# Altium footprint library Symbol.PcbLib: 206 footprints (part 11 of 15)
Each footprint in its own frame and in the unit in brackets; x right, y up, seen from the top. Pads: shape width x height; smd on the part's side, far side on the other; paste and mask are expansions set on the pad; w line width, h text height; cw(c..) or ccw(c..) is an arc to the next point about the centre after c.
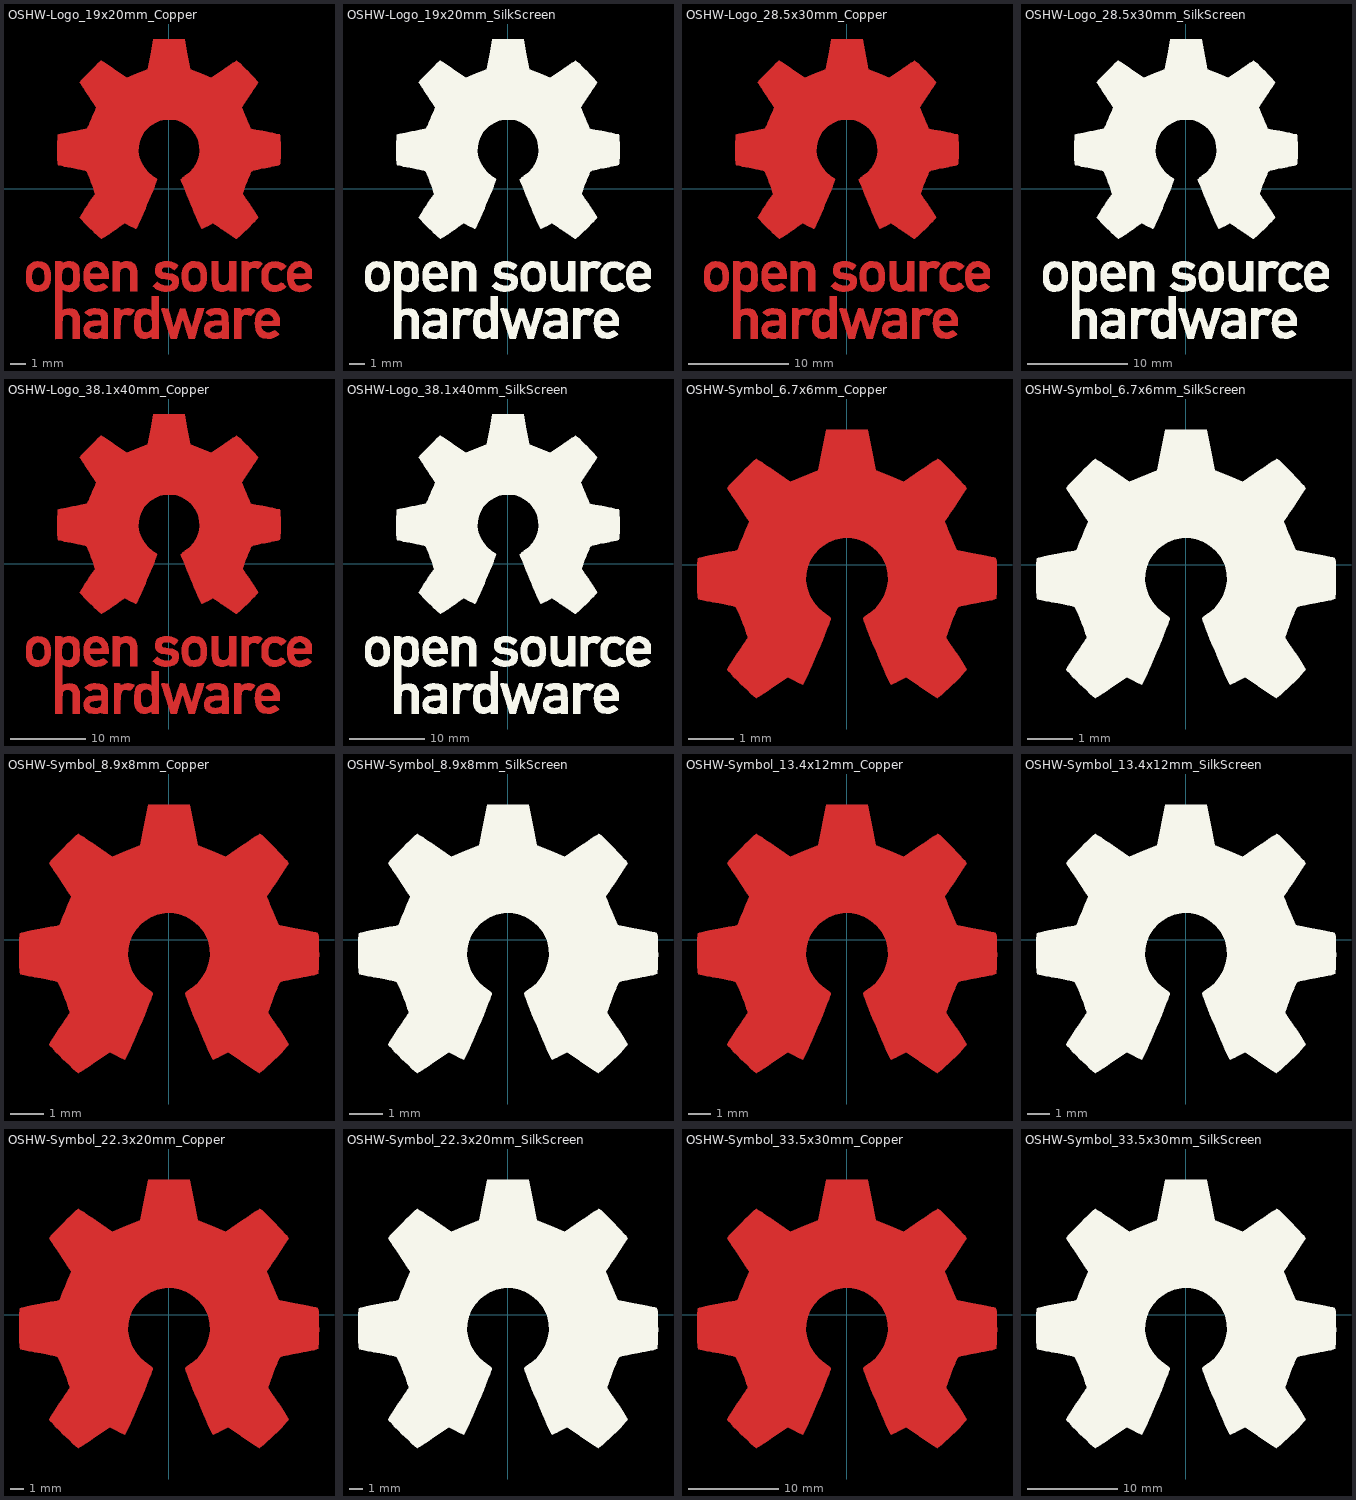
[diagram p10: the footprints below, top view; thin cyan lines are the x and y axes]

## OSHW-Logo_19x20mm_Copper [mm]
F.Cu:
  region: 5.959,-4.828 6.102,-4.872 6.194,-4.927 6.224,-4.971 6.216,-5.023 6.162,-5.104 6.117,-5.162 6.024,-5.266 5.953,-5.31 5.893,-5.307 5.716,-5.262 5.585,-5.264 5.479,-5.315 5.444,-5.345 5.33,-5.451 5.33,-6.829 4.872,-6.829 4.872,-4.83 5.101,-4.83 5.238,-4.836 5.309,-4.855 5.33,-4.893 5.33,-4.894 5.34,-4.933 5.383,-4.928 5.444,-4.9 5.57,-4.847 5.672,-4.815 5.803,-4.807
  region: 5.415,-7.952 5.575,-7.984 5.666,-8.031 5.762,-8.108 5.626,-8.281 5.542,-8.385 5.485,-8.436 5.428,-8.444 5.345,-8.418 5.306,-8.404 5.147,-8.383 5.001,-8.428 4.895,-8.529 4.877,-8.562 4.858,-8.647 4.844,-8.805 4.834,-9.023 4.83,-9.291 4.83,-9.329 4.83,-9.993 4.372,-9.993 4.372,-7.953 4.601,-7.953 4.733,-7.957 4.802,-7.972 4.827,-8.007 4.83,-8.039 4.83,-8.126 4.94,-8.039 5.066,-7.981 5.235,-7.951
  region: -3.289,-7.958 -3.227,-7.976 -3.207,-8.017 -3.206,-8.036 -3.203,-8.087 -3.178,-8.095 -3.111,-8.06 -3.071,-8.036 -2.945,-7.984 -2.795,-7.959 -2.638,-7.957 -2.49,-7.976 -2.37,-8.013 -2.293,-8.067 -2.278,-8.134 -2.286,-8.152 -2.341,-8.228 -2.427,-8.321 -2.443,-8.336 -2.525,-8.405 -2.595,-8.427 -2.694,-8.411 -2.734,-8.401 -2.857,-8.376 -2.943,-8.387 -3.017,-8.427 -3.084,-8.479 -3.133,-8.546 -3.167,-8.639 -3.189,-8.77 -3.201,-8.954 -3.206,-9.201 -3.206,-9.351 -3.206,-9.993 -3.623,-9.993 -3.623,-7.953 -3.414,-7.953
  region: 4.497,-6.829 4.268,-6.829 4.13,-6.823 4.059,-6.804 4.039,-6.766 4.027,-6.733 3.979,-6.74 3.883,-6.787 3.664,-6.86 3.43,-6.855 3.207,-6.776 3.1,-6.714 3.019,-6.646 2.96,-6.562 2.919,-6.449 2.893,-6.296 2.879,-6.09 2.874,-5.82 2.873,-5.612 2.873,-4.83 3.29,-4.83 3.29,-5.478 3.293,-5.784 3.308,-6.016 3.337,-6.184 3.383,-6.298 3.452,-6.367 3.547,-6.401 3.664,-6.41 3.787,-6.4 3.88,-6.364 3.948,-6.293 3.994,-6.177 4.022,-6.005 4.036,-5.77 4.039,-5.478 4.039,-4.83 4.497,-4.83
  region: -2.497,-4.865 -2.393,-4.914 -2.293,-4.986 -2.216,-5.068 -2.161,-5.173 -2.123,-5.312 -2.099,-5.498 -2.087,-5.742 -2.083,-6.057 -2.083,-6.09 -2.082,-6.829 -2.54,-6.829 -2.54,-6.147 -2.54,-5.895 -2.543,-5.712 -2.549,-5.585 -2.561,-5.499 -2.58,-5.442 -2.609,-5.399 -2.65,-5.356 -2.792,-5.265 -2.947,-5.248 -3.094,-5.306 -3.146,-5.349 -3.183,-5.389 -3.21,-5.433 -3.229,-5.492 -3.24,-5.582 -3.245,-5.716 -3.248,-5.907 -3.248,-6.14 -3.248,-6.829 -3.706,-6.829 -3.706,-4.83 -3.477,-4.83 -3.339,-4.836 -3.268,-4.855 -3.248,-4.893 -3.248,-4.894 -3.238,-4.931 -3.196,-4.926 -3.113,-4.886 -2.923,-4.826 -2.706,-4.82
  region: 7.342,-4.848 7.584,-4.95 7.66,-5 7.757,-5.077 7.818,-5.137 7.828,-5.157 7.798,-5.2 7.722,-5.274 7.661,-5.326 7.493,-5.46 7.361,-5.349 7.258,-5.277 7.159,-5.252 7.044,-5.258 6.863,-5.303 6.738,-5.397 6.663,-5.548 6.628,-5.766 6.631,-6.01 6.677,-6.189 6.77,-6.311 6.833,-6.352 7,-6.403 7.178,-6.403 7.333,-6.354 7.37,-6.329 7.462,-6.267 7.534,-6.257 7.612,-6.303 7.698,-6.386 7.834,-6.527 7.683,-6.651 7.45,-6.791 7.187,-6.861 6.912,-6.856 6.731,-6.81 6.52,-6.696 6.351,-6.518 6.275,-6.392 6.213,-6.211 6.182,-5.982 6.181,-5.734 6.212,-5.495 6.273,-5.296 6.282,-5.275 6.424,-5.074 6.616,-4.928 6.843,-4.84 7.091,-4.812
  region: 2.023,-4.855 2.233,-4.97 2.398,-5.151 2.476,-5.298 2.509,-5.428 2.53,-5.613 2.54,-5.827 2.536,-6.042 2.519,-6.23 2.499,-6.331 2.431,-6.468 2.313,-6.615 2.171,-6.742 2.031,-6.825 2.027,-6.826 1.853,-6.862 1.646,-6.863 1.45,-6.831 1.374,-6.804 1.179,-6.693 1.039,-6.548 0.948,-6.357 0.896,-6.105 0.885,-5.973 0.886,-5.808 0.888,-5.621 0.945,-5.333 1.056,-5.108 1.222,-4.946 1.442,-4.848 1.489,-4.836 1.772,-4.809 hole: 1.728,-5.251 1.573,-5.285 1.454,-5.368 1.392,-5.437 1.355,-5.505 1.338,-5.597 1.333,-5.738 1.332,-5.808 1.347,-6.049 1.391,-6.233 1.46,-6.351 1.509,-6.385 1.634,-6.408 1.783,-6.401 1.912,-6.367 1.946,-6.349 2.035,-6.241 2.094,-6.075 2.119,-5.874 2.107,-5.658 2.08,-5.528 2.001,-5.377 1.877,-5.283
  region: 1.097,-7.974 1.312,-8.619 1.528,-9.265 1.595,-9.036 1.636,-8.894 1.689,-8.703 1.747,-8.493 1.777,-8.38 1.892,-7.953 2.366,-7.953 2.224,-8.401 2.154,-8.621 2.07,-8.886 1.982,-9.163 1.904,-9.41 1.725,-9.973 1.532,-9.985 1.339,-9.998 1.234,-9.652 1.17,-9.437 1.099,-9.201 1.038,-8.992 1.035,-8.983 0.989,-8.842 0.949,-8.745 0.92,-8.708 0.914,-8.713 0.894,-8.769 0.855,-8.891 0.802,-9.061 0.74,-9.266 0.707,-9.379 0.527,-9.993 0.143,-9.993 -0.163,-9.025 -0.249,-8.754 -0.328,-8.507 -0.395,-8.297 -0.447,-8.135 -0.48,-8.033 -0.49,-8.003 -0.482,-7.972 -0.419,-7.959 -0.289,-7.96 -0.268,-7.961 -0.026,-7.974 0.132,-8.557 0.191,-8.769 0.243,-8.956 0.284,-9.101 0.31,-9.188 0.315,-9.202 0.335,-9.186 0.375,-9.102 0.43,-8.961 0.497,-8.775 0.553,-8.607 0.768,-7.949
  region: -8.405,-4.852 -8.188,-4.948 -8.022,-5.109 -7.909,-5.334 -7.848,-5.625 -7.844,-5.67 -7.84,-5.99 -7.885,-6.271 -7.974,-6.498 -8.022,-6.571 -8.19,-6.726 -8.403,-6.826 -8.642,-6.867 -8.885,-6.846 -9.07,-6.781 -9.23,-6.671 -9.36,-6.527 -9.362,-6.524 -9.415,-6.435 -9.449,-6.346 -9.47,-6.233 -9.482,-6.074 -9.487,-5.944 -9.49,-5.826 -9.492,-5.685 -9.484,-5.491 -9.459,-5.345 -9.413,-5.23 -9.345,-5.128 -9.319,-5.098 -9.159,-4.947 -8.988,-4.86 -8.778,-4.823 -8.676,-4.82 hole: -8.733,-5.258 -8.868,-5.308 -8.983,-5.413 -9.051,-5.585 -9.073,-5.826 -9.069,-5.943 -9.054,-6.1 -9.028,-6.201 -8.981,-6.272 -8.937,-6.314 -8.781,-6.401 -8.618,-6.413 -8.466,-6.35 -8.39,-6.28 -8.335,-6.209 -8.303,-6.141 -8.289,-6.052 -8.288,-5.919 -8.293,-5.797 -8.302,-5.623 -8.317,-5.51 -8.343,-5.436 -8.388,-5.379 -8.424,-5.347 -8.573,-5.262
  region: -0.666,-9.993 -0.895,-9.993 -1.028,-9.99 -1.097,-9.973 -1.122,-9.938 -1.124,-9.915 -1.128,-9.867 -1.155,-9.858 -1.225,-9.887 -1.279,-9.915 -1.487,-9.979 -1.713,-9.983 -1.897,-9.935 -2.068,-9.818 -2.198,-9.646 -2.27,-9.443 -2.272,-9.431 -2.282,-9.307 -2.287,-9.129 -2.287,-8.994 -2.287,-8.926 -2.284,-8.817 -2.263,-8.547 -2.221,-8.344 -2.151,-8.194 -2.046,-8.083 -1.945,-8.017 -1.803,-7.971 -1.626,-7.955 -1.445,-7.968 -1.291,-8.008 -1.209,-8.056 -1.124,-8.133 -1.124,-7.162 -0.666,-7.162 hole: -1.534,-8.386 -1.669,-8.427 -1.769,-8.519 -1.779,-8.537 -1.811,-8.65 -1.829,-8.811 -1.832,-8.994 -1.822,-9.173 -1.798,-9.321 -1.765,-9.404 -1.642,-9.518 -1.497,-9.559 -1.346,-9.526 -1.218,-9.427 -1.169,-9.361 -1.141,-9.282 -1.128,-9.167 -1.124,-8.994 -1.13,-8.822 -1.146,-8.672 -1.168,-8.571 -1.171,-8.562 -1.26,-8.454 -1.389,-8.395
  region: 8.868,-4.823 8.974,-4.849 9.179,-4.944 9.354,-5.089 9.475,-5.262 9.491,-5.301 9.514,-5.403 9.53,-5.555 9.535,-5.707 9.535,-5.996 8.932,-5.996 8.683,-5.997 8.507,-6.003 8.396,-6.018 8.338,-6.046 8.326,-6.092 8.348,-6.16 8.387,-6.24 8.498,-6.373 8.651,-6.439 8.838,-6.437 9.05,-6.365 9.234,-6.276 9.386,-6.396 9.538,-6.517 9.395,-6.649 9.204,-6.774 8.969,-6.849 8.716,-6.87 8.471,-6.832 8.432,-6.82 8.217,-6.707 8.057,-6.54 7.949,-6.313 7.889,-6.02 7.889,-6.014 7.883,-5.695 7.905,-5.582 7.937,-5.415 8.043,-5.18 8.195,-4.996 8.387,-4.871 8.614,-4.811 hole: 8.801,-5.228 8.664,-5.231 8.525,-5.292 8.408,-5.394 8.338,-5.517 8.328,-5.582 8.367,-5.599 8.472,-5.613 8.628,-5.62 8.726,-5.621 8.91,-5.621 9.025,-5.616 9.085,-5.604 9.106,-5.581 9.101,-5.542 9.096,-5.528 9.022,-5.389 8.905,-5.277
  region: 0.046,-4.823 0.204,-4.853 0.368,-4.915 0.385,-4.923 0.509,-4.989 0.595,-5.049 0.623,-5.088 0.596,-5.151 0.532,-5.245 0.504,-5.28 0.386,-5.417 0.235,-5.328 0.091,-5.268 -0.076,-5.236 -0.236,-5.234 -0.359,-5.264 -0.389,-5.283 -0.446,-5.368 -0.452,-5.467 -0.41,-5.544 -0.385,-5.559 -0.31,-5.578 -0.178,-5.599 -0.016,-5.62 0.014,-5.623 0.275,-5.669 0.464,-5.745 0.59,-5.86 0.659,-6.021 0.681,-6.218 0.651,-6.441 0.554,-6.617 0.388,-6.745 0.155,-6.825 -0.104,-6.857 -0.315,-6.857 -0.487,-6.828 -0.604,-6.788 -0.752,-6.719 -0.888,-6.638 -0.937,-6.603 -1.062,-6.501 -0.76,-6.196 -0.589,-6.309 -0.417,-6.394 -0.234,-6.439 -0.058,-6.444 0.093,-6.409 0.199,-6.337 0.233,-6.275 0.228,-6.177 0.143,-6.102 -0.022,-6.05 -0.202,-6.026 -0.479,-5.98 -0.685,-5.894 -0.823,-5.764 -0.895,-5.589 -0.905,-5.382 -0.855,-5.165 -0.744,-5.001 -0.568,-4.889 -0.327,-4.829 -0.149,-4.817
  region: 6.731,-7.964 6.93,-8.016 7.097,-8.123 7.177,-8.202 7.31,-8.391 7.385,-8.61 7.411,-8.879 7.412,-8.9 7.412,-9.119 6.154,-9.119 6.18,-9.234 6.229,-9.337 6.314,-9.445 6.331,-9.463 6.484,-9.556 6.657,-9.572 6.857,-9.51 6.891,-9.494 6.995,-9.443 7.065,-9.415 7.077,-9.412 7.12,-9.438 7.2,-9.501 7.241,-9.535 7.327,-9.614 7.355,-9.666 7.335,-9.714 7.325,-9.728 7.255,-9.785 7.139,-9.855 7.058,-9.896 6.829,-9.967 6.575,-9.991 6.334,-9.963 6.267,-9.943 6.058,-9.832 5.904,-9.66 5.802,-9.426 5.753,-9.129 5.748,-8.973 5.763,-8.747 5.771,-8.644 5.842,-8.381 5.962,-8.184 6.134,-8.049 6.358,-7.975 6.479,-7.96 hole: 6.592,-8.361 6.431,-8.392 6.292,-8.481 6.196,-8.609 6.163,-8.747 6.201,-8.764 6.305,-8.777 6.456,-8.785 6.558,-8.786 6.742,-8.785 6.858,-8.779 6.922,-8.765 6.949,-8.74 6.954,-8.703 6.918,-8.591 6.828,-8.48 6.71,-8.395
  region: -4.493,-4.877 -4.451,-4.896 -4.308,-5.001 -4.172,-5.155 -4.07,-5.324 -4.042,-5.402 -4.015,-5.54 -4,-5.708 -3.998,-5.777 -3.997,-5.996 -5.256,-5.996 -5.229,-6.111 -5.163,-6.246 -5.048,-6.363 -4.911,-6.438 -4.824,-6.454 -4.705,-6.435 -4.564,-6.387 -4.516,-6.366 -4.339,-6.277 -4.187,-6.392 -4.1,-6.47 -4.054,-6.535 -4.051,-6.554 -4.093,-6.6 -4.184,-6.669 -4.266,-6.724 -4.489,-6.821 -4.739,-6.866 -4.987,-6.854 -5.184,-6.794 -5.388,-6.665 -5.532,-6.496 -5.623,-6.276 -5.664,-5.998 -5.667,-5.871 -5.653,-5.579 -5.651,-5.571 -5.604,-5.35 -5.517,-5.166 -5.41,-5.036 -5.213,-4.894 -4.981,-4.819 -4.734,-4.812 hole: -4.847,-5.23 -5.005,-5.268 -5.138,-5.372 -5.223,-5.523 -5.224,-5.528 -5.234,-5.571 -5.223,-5.598 -5.175,-5.613 -5.078,-5.62 -4.916,-5.621 -4.854,-5.621 -4.664,-5.619 -4.544,-5.611 -4.479,-5.595 -4.456,-5.568 -4.455,-5.56 -4.482,-5.492 -4.547,-5.397 -4.575,-5.364 -4.679,-5.27 -4.788,-5.233
  region: 3.439,-7.965 3.614,-8.008 3.665,-8.031 3.763,-8.09 3.839,-8.156 3.895,-8.242 3.934,-8.358 3.96,-8.517 3.977,-8.729 3.986,-9.007 3.99,-9.192 4.004,-9.993 3.772,-9.993 3.631,-9.988 3.558,-9.967 3.539,-9.933 3.529,-9.897 3.485,-9.904 3.425,-9.933 3.274,-9.978 3.08,-9.99 2.876,-9.971 2.694,-9.92 2.678,-9.913 2.512,-9.796 2.403,-9.634 2.353,-9.445 2.357,-9.378 2.364,-9.247 2.439,-9.058 2.542,-8.93 2.604,-8.874 2.665,-8.838 2.744,-8.816 2.861,-8.803 3.036,-8.795 3.105,-8.793 3.539,-8.778 3.539,-8.647 3.522,-8.509 3.461,-8.425 3.338,-8.372 3.335,-8.371 3.161,-8.35 2.99,-8.377 2.863,-8.444 2.812,-8.477 2.758,-8.472 2.673,-8.424 2.624,-8.391 2.527,-8.319 2.467,-8.265 2.457,-8.249 2.497,-8.169 2.614,-8.074 2.665,-8.042 2.811,-7.986 3.008,-7.955 3.227,-7.948 hole: 3.539,-9.119 3.336,-9.119 3.1,-9.131 2.935,-9.169 2.83,-9.235 2.807,-9.265 2.767,-9.378 2.803,-9.469 2.91,-9.534 3.083,-9.57 3.175,-9.574 3.329,-9.562 3.431,-9.516 3.456,-9.494 3.524,-9.374 3.539,-9.265
  region: -4.584,-7.969 -4.388,-8.022 -4.239,-8.116 -4.134,-8.24 -4.101,-8.293 -4.077,-8.349 -4.06,-8.42 -4.049,-8.519 -4.043,-8.66 -4.04,-8.855 -4.039,-9.118 -4.039,-9.188 -4.039,-9.993 -4.239,-9.993 -4.366,-9.985 -4.461,-9.962 -4.484,-9.948 -4.549,-9.924 -4.615,-9.948 -4.723,-9.978 -4.881,-9.99 -5.056,-9.985 -5.216,-9.963 -5.309,-9.935 -5.49,-9.819 -5.602,-9.658 -5.653,-9.444 -5.654,-9.438 -5.649,-9.344 -5.643,-9.205 -5.566,-9.02 -5.421,-8.88 -5.401,-8.867 -5.315,-8.826 -5.208,-8.801 -5.059,-8.789 -4.882,-8.786 -4.497,-8.786 -4.497,-8.624 -4.513,-8.499 -4.555,-8.415 -4.56,-8.411 -4.653,-8.374 -4.793,-8.36 -4.948,-8.367 -5.084,-8.394 -5.166,-8.434 -5.21,-8.467 -5.256,-8.473 -5.32,-8.446 -5.417,-8.38 -5.563,-8.269 -5.576,-8.259 -5.569,-8.22 -5.512,-8.156 -5.426,-8.084 -5.33,-8.024 -5.3,-8.01 -5.19,-7.982 -5.03,-7.961 -4.85,-7.953 -4.842,-7.953 hole: -4.497,-9.119 -4.727,-9.119 -4.946,-9.136 -5.112,-9.184 -5.215,-9.258 -5.247,-9.344 -5.211,-9.451 -5.154,-9.512 -5.039,-9.558 -4.887,-9.577 -4.732,-9.567 -4.608,-9.531 -4.573,-9.508 -4.512,-9.401 -4.497,-9.279
  region: -6.321,-4.865 -6.233,-4.909 -6.125,-4.984 -6.046,-5.067 -5.992,-5.17 -5.958,-5.309 -5.94,-5.497 -5.934,-5.749 -5.934,-5.858 -5.935,-6.095 -5.939,-6.265 -5.949,-6.383 -5.966,-6.463 -5.992,-6.523 -6.019,-6.563 -6.193,-6.735 -6.398,-6.839 -6.618,-6.87 -6.84,-6.825 -6.91,-6.793 -7.079,-6.705 -7.079,-8.08 -6.956,-8.017 -6.794,-7.967 -6.595,-7.955 -6.396,-7.978 -6.246,-8.03 -6.122,-8.13 -6.016,-8.272 -6.008,-8.287 -5.974,-8.356 -5.949,-8.425 -5.932,-8.509 -5.922,-8.622 -5.916,-8.778 -5.913,-8.99 -5.913,-9.23 -5.913,-9.993 -6.371,-9.993 -6.371,-8.585 -6.499,-8.477 -6.632,-8.391 -6.758,-8.375 -6.885,-8.416 -6.952,-8.455 -7.003,-8.512 -7.038,-8.597 -7.062,-8.722 -7.077,-8.901 -7.086,-9.144 -7.089,-9.306 -7.1,-9.973 -7.318,-9.985 -7.537,-9.998 -7.537,-5.863 -7.537,-4.83 -7.308,-4.83 -7.17,-4.836 -7.099,-4.855 -7.079,-4.893 -7.079,-4.894 -7.069,-4.931 -7.027,-4.926 -6.943,-4.886 -6.748,-4.824 -6.529,-4.817 hole: -6.795,-5.25 -6.889,-5.272 -6.983,-5.353 -7.046,-5.509 -7.076,-5.741 -7.079,-5.863 -7.067,-6.094 -7.028,-6.254 -6.954,-6.353 -6.84,-6.403 -6.725,-6.412 -6.594,-6.401 -6.508,-6.357 -6.453,-6.298 -6.411,-6.235 -6.385,-6.165 -6.374,-6.066 -6.374,-5.918 -6.378,-5.795 -6.386,-5.608 -6.399,-5.486 -6.421,-5.408 -6.457,-5.356 -6.49,-5.326 -6.629,-5.26
  region: 337 vertices and 0 holes, not listed, extent -7.416,-3.331 7.458,9.973

## OSHW-Logo_19x20mm_SilkScreen [mm]
F.SilkS:
  drawing of 18 lines, arcs and shapes, not listed

## OSHW-Logo_28.5x30mm_Copper [mm]
F.Cu:
  region: 8.931,-7.236 9.146,-7.302 9.284,-7.385 9.329,-7.45 9.316,-7.528 9.236,-7.65 9.168,-7.737 9.028,-7.893 8.923,-7.959 8.833,-7.954 8.567,-7.886 8.371,-7.89 8.212,-7.966 8.159,-8.011 7.988,-8.169 7.988,-10.235 7.302,-10.235 7.302,-7.239 7.645,-7.239 7.851,-7.247 7.957,-7.276 7.988,-7.333 7.988,-7.335 8.003,-7.394 8.069,-7.386 8.16,-7.343 8.348,-7.264 8.501,-7.216 8.698,-7.204
  region: 8.116,-11.919 8.356,-11.966 8.493,-12.036 8.636,-12.153 8.432,-12.411 8.306,-12.567 8.22,-12.643 8.135,-12.655 8.011,-12.617 7.952,-12.596 7.714,-12.565 7.496,-12.632 7.336,-12.784 7.31,-12.832 7.281,-12.96 7.26,-13.196 7.245,-13.523 7.239,-13.925 7.239,-13.982 7.239,-14.978 6.553,-14.978 6.553,-11.92 6.896,-11.92 7.094,-11.925 7.197,-11.948 7.235,-12 7.239,-12.049 7.239,-12.179 7.404,-12.049 7.592,-11.961 7.846,-11.917
  region: -4.93,-11.927 -4.837,-11.955 -4.807,-12.016 -4.805,-12.044 -4.8,-12.121 -4.763,-12.133 -4.662,-12.08 -4.603,-12.044 -4.414,-11.966 -4.189,-11.928 -3.953,-11.925 -3.732,-11.954 -3.552,-12.01 -3.437,-12.091 -3.415,-12.191 -3.426,-12.218 -3.509,-12.332 -3.638,-12.471 -3.661,-12.493 -3.784,-12.596 -3.89,-12.63 -4.038,-12.607 -4.097,-12.591 -4.282,-12.554 -4.412,-12.571 -4.521,-12.63 -4.622,-12.709 -4.696,-12.808 -4.747,-12.947 -4.78,-13.145 -4.798,-13.419 -4.805,-13.791 -4.805,-14.015 -4.805,-14.978 -5.429,-14.978 -5.429,-11.92 -5.117,-11.92
  region: 6.74,-10.235 6.397,-10.235 6.19,-10.227 6.083,-10.197 6.054,-10.141 6.036,-10.091 5.964,-10.102 5.82,-10.172 5.491,-10.281 5.141,-10.273 4.806,-10.155 4.647,-10.062 4.525,-9.961 4.436,-9.835 4.375,-9.666 4.336,-9.436 4.316,-9.127 4.307,-8.723 4.306,-8.41 4.306,-7.239 4.93,-7.239 4.93,-8.211 4.936,-8.668 4.958,-9.016 5.001,-9.268 5.071,-9.439 5.174,-9.543 5.316,-9.594 5.492,-9.607 5.676,-9.592 5.816,-9.539 5.917,-9.432 5.986,-9.257 6.028,-9.001 6.048,-8.648 6.054,-8.211 6.054,-7.239 6.74,-7.239
  region: -3.742,-7.291 -3.587,-7.365 -3.437,-7.472 -3.322,-7.596 -3.238,-7.753 -3.181,-7.962 -3.146,-8.241 -3.128,-8.607 -3.122,-9.078 -3.122,-9.127 -3.12,-10.235 -3.807,-10.235 -3.807,-9.214 -3.807,-8.835 -3.811,-8.561 -3.82,-8.37 -3.838,-8.242 -3.867,-8.156 -3.911,-8.092 -3.971,-8.028 -4.184,-7.891 -4.416,-7.865 -4.638,-7.952 -4.715,-8.017 -4.771,-8.077 -4.812,-8.142 -4.839,-8.232 -4.856,-8.367 -4.864,-8.567 -4.867,-8.854 -4.868,-9.202 -4.868,-10.235 -5.554,-10.235 -5.554,-7.239 -5.211,-7.239 -5.005,-7.247 -4.899,-7.276 -4.868,-7.333 -4.868,-7.335 -4.854,-7.39 -4.79,-7.384 -4.665,-7.323 -4.38,-7.233 -4.055,-7.223
  region: 11.004,-7.265 11.366,-7.419 11.48,-7.494 11.625,-7.609 11.717,-7.699 11.733,-7.729 11.688,-7.794 11.573,-7.905 11.481,-7.982 11.23,-8.184 11.032,-8.017 10.879,-7.909 10.729,-7.872 10.558,-7.881 10.286,-7.949 10.099,-8.089 9.986,-8.315 9.934,-8.642 9.939,-9.008 10.008,-9.276 10.146,-9.458 10.241,-9.52 10.491,-9.597 10.758,-9.597 10.991,-9.522 11.046,-9.486 11.184,-9.393 11.292,-9.378 11.409,-9.447 11.538,-9.571 11.741,-9.782 11.515,-9.968 11.165,-10.179 10.771,-10.283 10.359,-10.275 10.089,-10.206 9.772,-10.036 9.519,-9.769 9.404,-9.58 9.311,-9.309 9.265,-8.965 9.264,-8.593 9.31,-8.236 9.401,-7.937 9.416,-7.906 9.628,-7.605 9.916,-7.386 10.257,-7.254 10.627,-7.212
  region: 3.031,-7.276 3.347,-7.448 3.594,-7.72 3.71,-7.94 3.76,-8.135 3.793,-8.413 3.806,-8.733 3.801,-9.055 3.775,-9.337 3.745,-9.488 3.643,-9.695 3.467,-9.914 3.254,-10.105 3.043,-10.229 3.038,-10.231 2.777,-10.285 2.468,-10.287 2.173,-10.237 2.06,-10.198 1.767,-10.032 1.558,-9.815 1.42,-9.527 1.343,-9.15 1.326,-8.952 1.328,-8.704 1.331,-8.425 1.416,-7.993 1.583,-7.656 1.831,-7.413 2.161,-7.266 2.231,-7.248 2.656,-7.208 hole: 2.589,-7.869 2.358,-7.921 2.179,-8.046 2.086,-8.149 2.031,-8.251 2.005,-8.389 1.997,-8.6 1.997,-8.704 2.02,-9.066 2.084,-9.342 2.188,-9.519 2.261,-9.569 2.449,-9.604 2.673,-9.594 2.866,-9.543 2.917,-9.515 3.051,-9.353 3.139,-9.105 3.177,-8.803 3.158,-8.48 3.117,-8.285 2.999,-8.059 2.813,-7.918
  region: 1.397,-11.933 1.644,-11.951 1.967,-12.918 2.289,-13.886 2.391,-13.543 2.452,-13.33 2.532,-13.044 2.618,-12.729 2.664,-12.56 2.836,-11.92 3.546,-11.92 3.333,-12.591 3.229,-12.921 3.103,-13.319 2.971,-13.734 2.853,-14.104 2.585,-14.947 2.296,-14.966 2.007,-14.984 1.85,-14.466 1.753,-14.144 1.647,-13.79 1.555,-13.476 1.551,-13.464 1.482,-13.251 1.422,-13.107 1.379,-13.052 1.37,-13.058 1.34,-13.143 1.281,-13.325 1.202,-13.581 1.11,-13.888 1.06,-14.057 0.789,-14.978 0.215,-14.978 -0.245,-13.527 -0.374,-13.12 -0.491,-12.75 -0.592,-12.435 -0.669,-12.193 -0.719,-12.039 -0.734,-11.995 -0.722,-11.949 -0.628,-11.929 -0.433,-11.931 -0.402,-11.932 -0.039,-11.951 0.198,-12.825 0.286,-13.143 0.364,-13.424 0.426,-13.641 0.464,-13.771 0.472,-13.792 0.501,-13.768 0.561,-13.641 0.645,-13.43 0.744,-13.152 0.829,-12.9 1.15,-11.914
  region: -12.598,-7.272 -12.271,-7.416 -12.023,-7.657 -11.854,-7.995 -11.762,-8.431 -11.756,-8.499 -11.75,-8.978 -11.817,-9.398 -11.952,-9.739 -12.024,-9.848 -12.275,-10.08 -12.595,-10.23 -12.952,-10.293 -13.317,-10.261 -13.594,-10.163 -13.833,-9.999 -14.028,-9.783 -14.031,-9.778 -14.11,-9.645 -14.162,-9.511 -14.193,-9.342 -14.211,-9.104 -14.219,-8.909 -14.223,-8.731 -14.227,-8.52 -14.214,-8.229 -14.177,-8.011 -14.109,-7.838 -14.005,-7.686 -13.967,-7.64 -13.728,-7.415 -13.471,-7.283 -13.156,-7.228 -13.003,-7.224 hole: -13.089,-7.881 -13.291,-7.956 -13.463,-8.113 -13.565,-8.371 -13.599,-8.731 -13.593,-8.908 -13.571,-9.143 -13.532,-9.293 -13.461,-9.401 -13.395,-9.463 -13.161,-9.594 -12.917,-9.612 -12.689,-9.518 -12.575,-9.412 -12.493,-9.305 -12.445,-9.203 -12.424,-9.071 -12.422,-8.872 -12.429,-8.689 -12.443,-8.427 -12.465,-8.258 -12.505,-8.147 -12.572,-8.062 -12.625,-8.014 -12.848,-7.887
  region: -0.999,-14.978 -1.342,-14.978 -1.541,-14.972 -1.645,-14.948 -1.682,-14.895 -1.685,-14.86 -1.691,-14.789 -1.731,-14.775 -1.835,-14.819 -1.917,-14.86 -2.228,-14.957 -2.567,-14.963 -2.843,-14.89 -3.099,-14.715 -3.295,-14.457 -3.402,-14.152 -3.405,-14.135 -3.42,-13.949 -3.428,-13.682 -3.428,-13.481 -3.427,-13.378 -3.423,-13.215 -3.392,-12.81 -3.329,-12.506 -3.223,-12.281 -3.067,-12.114 -2.914,-12.016 -2.702,-11.947 -2.437,-11.923 -2.166,-11.942 -1.935,-12.002 -1.812,-12.074 -1.685,-12.189 -1.685,-10.734 -0.999,-10.734 hole: -2.3,-12.568 -2.502,-12.63 -2.651,-12.768 -2.666,-12.796 -2.715,-12.964 -2.741,-13.206 -2.746,-13.481 -2.73,-13.749 -2.694,-13.97 -2.646,-14.095 -2.462,-14.265 -2.243,-14.327 -2.018,-14.277 -1.825,-14.13 -1.753,-14.03 -1.71,-13.912 -1.69,-13.739 -1.685,-13.48 -1.694,-13.223 -1.717,-12.997 -1.75,-12.846 -1.756,-12.832 -1.888,-12.671 -2.082,-12.582
  region: 13.291,-7.229 13.451,-7.267 13.757,-7.41 14.019,-7.627 14.2,-7.887 14.225,-7.945 14.259,-8.099 14.283,-8.325 14.291,-8.554 14.291,-8.987 13.386,-8.987 13.013,-8.988 12.75,-8.997 12.583,-9.019 12.497,-9.061 12.478,-9.13 12.511,-9.233 12.571,-9.352 12.736,-9.552 12.966,-9.651 13.246,-9.648 13.564,-9.54 13.839,-9.406 14.296,-9.767 14.081,-9.965 13.794,-10.152 13.442,-10.265 13.063,-10.297 12.697,-10.24 12.638,-10.221 12.316,-10.053 12.076,-9.802 11.914,-9.461 11.824,-9.023 11.823,-9.014 11.815,-8.536 11.848,-8.366 11.895,-8.116 12.054,-7.763 12.282,-7.488 12.571,-7.301 12.91,-7.211 hole: 13.191,-7.836 12.985,-7.84 12.776,-7.932 12.601,-8.084 12.496,-8.269 12.482,-8.366 12.54,-8.392 12.698,-8.412 12.931,-8.423 13.079,-8.425 13.354,-8.424 13.526,-8.417 13.617,-8.399 13.647,-8.364 13.64,-8.307 13.633,-8.285 13.522,-8.077 13.346,-7.909
  region: 0.07,-7.229 0.306,-7.273 0.551,-7.367 0.577,-7.379 0.763,-7.477 0.892,-7.568 0.934,-7.626 0.894,-7.721 0.798,-7.861 0.755,-7.913 0.579,-8.119 0.352,-7.985 0.136,-7.896 -0.114,-7.848 -0.353,-7.845 -0.539,-7.89 -0.583,-7.918 -0.668,-8.046 -0.678,-8.194 -0.615,-8.309 -0.577,-8.332 -0.465,-8.359 -0.267,-8.392 -0.024,-8.423 0.021,-8.428 0.412,-8.496 0.696,-8.611 0.884,-8.784 0.988,-9.025 1.021,-9.319 0.976,-9.654 0.83,-9.917 0.582,-10.109 0.232,-10.229 -0.156,-10.277 -0.473,-10.276 -0.73,-10.233 -0.905,-10.174 -1.127,-10.07 -1.331,-9.949 -1.404,-9.896 -1.591,-9.743 -1.366,-9.515 -1.14,-9.286 -0.883,-9.456 -0.626,-9.584 -0.351,-9.65 -0.086,-9.657 0.139,-9.606 0.298,-9.497 0.349,-9.405 0.341,-9.258 0.214,-9.145 -0.032,-9.067 -0.303,-9.031 -0.718,-8.963 -1.027,-8.833 -1.233,-8.639 -1.341,-8.377 -1.356,-8.066 -1.282,-7.741 -1.114,-7.495 -0.851,-7.328 -0.491,-7.237 -0.224,-7.22
  region: 10.088,-11.936 10.386,-12.014 10.636,-12.174 10.757,-12.293 10.955,-12.576 11.069,-12.904 11.108,-13.307 11.108,-13.34 11.109,-13.667 9.223,-13.667 9.263,-13.839 9.336,-13.994 9.463,-14.156 9.489,-14.182 9.718,-14.322 9.978,-14.346 10.278,-14.254 10.329,-14.229 10.484,-14.154 10.589,-14.111 10.607,-14.107 10.671,-14.145 10.792,-14.24 10.853,-14.291 10.981,-14.41 11.023,-14.488 10.994,-14.56 10.978,-14.579 10.873,-14.665 10.699,-14.77 10.578,-14.831 10.234,-14.939 9.854,-14.974 9.493,-14.932 9.392,-14.903 9.08,-14.735 8.848,-14.478 8.696,-14.127 8.622,-13.682 8.614,-13.449 8.638,-13.11 8.649,-12.955 8.755,-12.561 8.936,-12.265 9.193,-12.063 9.529,-11.952 9.711,-11.931 hole: 9.879,-12.531 9.639,-12.577 9.43,-12.711 9.286,-12.903 9.236,-13.11 9.294,-13.135 9.45,-13.154 9.676,-13.166 9.829,-13.168 10.105,-13.166 10.279,-13.157 10.374,-13.136 10.414,-13.099 10.422,-13.044 10.369,-12.876 10.234,-12.71 10.057,-12.583
  region: -6.733,-7.309 -6.671,-7.338 -6.456,-7.496 -6.253,-7.726 -6.101,-7.979 -6.057,-8.096 -6.018,-8.304 -5.994,-8.555 -5.992,-8.659 -5.991,-8.987 -7.877,-8.987 -7.837,-9.158 -7.738,-9.361 -7.566,-9.537 -7.36,-9.65 -7.23,-9.673 -7.052,-9.645 -6.841,-9.573 -6.769,-9.54 -6.503,-9.408 -6.276,-9.581 -6.145,-9.698 -6.076,-9.794 -6.072,-9.823 -6.134,-9.891 -6.271,-9.996 -6.394,-10.077 -6.728,-10.224 -7.103,-10.29 -7.474,-10.273 -7.77,-10.183 -8.075,-9.99 -8.291,-9.736 -8.427,-9.407 -8.489,-8.99 -8.494,-8.799 -8.472,-8.362 -8.47,-8.349 -8.4,-8.018 -8.269,-7.743 -8.109,-7.547 -7.813,-7.335 -7.465,-7.222 -7.096,-7.212 hole: -7.264,-7.838 -7.502,-7.896 -7.701,-8.052 -7.828,-8.277 -7.83,-8.285 -7.845,-8.349 -7.827,-8.39 -7.757,-8.413 -7.611,-8.423 -7.368,-8.425 -7.275,-8.425 -6.99,-8.422 -6.81,-8.409 -6.713,-8.385 -6.679,-8.345 -6.678,-8.332 -6.717,-8.231 -6.815,-8.089 -6.857,-8.039 -7.013,-7.898 -7.176,-7.843
  region: 5.154,-11.938 5.417,-12.002 5.493,-12.036 5.64,-12.125 5.753,-12.225 5.837,-12.353 5.896,-12.527 5.936,-12.765 5.96,-13.083 5.975,-13.499 5.98,-13.777 6.001,-14.978 5.653,-14.978 5.442,-14.969 5.333,-14.939 5.305,-14.888 5.29,-14.833 5.223,-14.844 5.133,-14.888 4.907,-14.955 4.616,-14.973 4.31,-14.944 4.038,-14.867 4.014,-14.857 3.766,-14.682 3.602,-14.44 3.527,-14.157 3.532,-14.055 3.544,-13.859 3.656,-13.575 3.81,-13.384 3.903,-13.301 3.994,-13.246 4.113,-13.213 4.288,-13.194 4.55,-13.181 4.653,-13.178 5.305,-13.157 5.304,-12.96 5.278,-12.752 5.187,-12.627 5.003,-12.547 4.998,-12.546 4.737,-12.514 4.481,-12.555 4.291,-12.655 4.215,-12.705 4.133,-12.698 4.007,-12.626 3.932,-12.576 3.787,-12.468 3.697,-12.387 3.683,-12.364 3.742,-12.244 3.918,-12.101 3.994,-12.053 4.213,-11.97 4.509,-11.923 4.837,-11.912 hole: 5.305,-13.667 5,-13.667 4.647,-13.685 4.399,-13.742 4.242,-13.841 4.207,-13.886 4.147,-14.055 4.201,-14.192 4.361,-14.29 4.62,-14.343 4.759,-14.35 4.989,-14.332 5.142,-14.262 5.18,-14.229 5.281,-14.049 5.305,-13.886
  region: -6.87,-11.944 -6.576,-12.022 -6.353,-12.164 -6.195,-12.35 -6.146,-12.43 -6.11,-12.513 -6.085,-12.619 -6.068,-12.768 -6.059,-12.979 -6.055,-13.272 -6.054,-13.666 -6.054,-13.77 -6.054,-14.978 -6.353,-14.978 -6.544,-14.965 -6.685,-14.931 -6.721,-14.91 -6.818,-14.874 -6.916,-14.91 -7.079,-14.955 -7.316,-14.973 -7.578,-14.965 -7.817,-14.932 -7.957,-14.89 -8.228,-14.716 -8.397,-14.475 -8.473,-14.154 -8.474,-14.146 -8.467,-14.004 -8.457,-13.796 -8.342,-13.519 -8.124,-13.309 -8.094,-13.29 -7.965,-13.228 -7.806,-13.191 -7.582,-13.172 -7.317,-13.168 -6.74,-13.168 -6.74,-12.926 -6.765,-12.738 -6.827,-12.613 -6.834,-12.606 -6.973,-12.551 -7.183,-12.529 -7.415,-12.54 -7.621,-12.58 -7.742,-12.641 -7.808,-12.689 -7.878,-12.699 -7.974,-12.659 -8.12,-12.56 -8.337,-12.393 -8.357,-12.378 -8.347,-12.32 -8.261,-12.223 -8.132,-12.116 -7.988,-12.026 -7.943,-12.005 -7.779,-11.962 -7.538,-11.932 -7.269,-11.92 -7.257,-11.92 hole: -6.74,-13.667 -7.085,-13.667 -7.413,-13.693 -7.662,-13.764 -7.817,-13.876 -7.863,-14.004 -7.811,-14.166 -7.725,-14.257 -7.552,-14.326 -7.324,-14.353 -7.092,-14.339 -6.906,-14.285 -6.854,-14.251 -6.763,-14.09 -6.74,-13.907
  region: -9.473,-7.292 -9.342,-7.357 -9.18,-7.47 -9.061,-7.594 -8.98,-7.749 -8.93,-7.957 -8.903,-8.239 -8.894,-8.617 -8.893,-8.779 -8.895,-9.135 -8.902,-9.39 -8.916,-9.566 -8.942,-9.687 -8.981,-9.776 -9.022,-9.836 -9.282,-10.095 -9.588,-10.25 -9.919,-10.297 -10.252,-10.229 -10.357,-10.181 -10.609,-10.05 -10.609,-12.11 -10.425,-12.015 -10.183,-11.941 -9.884,-11.923 -9.587,-11.957 -9.362,-12.036 -9.175,-12.185 -9.016,-12.398 -9.004,-12.42 -8.953,-12.523 -8.916,-12.627 -8.891,-12.753 -8.875,-12.922 -8.866,-13.156 -8.863,-13.474 -8.862,-13.833 -8.862,-14.978 -9.548,-14.978 -9.548,-12.867 -9.74,-12.706 -9.94,-12.576 -10.129,-12.553 -10.319,-12.613 -10.42,-12.672 -10.495,-12.757 -10.549,-12.884 -10.585,-13.073 -10.607,-13.341 -10.62,-13.705 -10.625,-13.948 -10.641,-14.947 -10.968,-14.966 -11.296,-14.984 -11.296,-8.788 -11.296,-7.239 -10.953,-7.239 -10.747,-7.247 -10.64,-7.276 -10.609,-7.333 -10.609,-7.335 -10.595,-7.39 -10.532,-7.384 -10.407,-7.323 -10.114,-7.23 -9.785,-7.22 hole: -10.184,-7.868 -10.326,-7.902 -10.466,-8.023 -10.56,-8.257 -10.605,-8.604 -10.609,-8.788 -10.592,-9.133 -10.533,-9.373 -10.423,-9.522 -10.252,-9.596 -10.079,-9.611 -9.883,-9.594 -9.753,-9.527 -9.672,-9.439 -9.608,-9.345 -9.57,-9.239 -9.553,-9.092 -9.553,-8.87 -9.559,-8.685 -9.572,-8.406 -9.591,-8.222 -9.624,-8.106 -9.677,-8.028 -9.727,-7.983 -9.936,-7.884
  region: 336 vertices and 0 holes, not listed, extent -11.115,-4.993 11.177,14.947

## OSHW-Logo_28.5x30mm_SilkScreen [mm]
F.SilkS:
  drawing of 18 lines, arcs and shapes, not listed

## OSHW-Logo_38.1x40mm_Copper [mm]
F.Cu:
  region: 11.918,-9.656 12.204,-9.744 12.389,-9.855 12.449,-9.942 12.432,-10.046 12.325,-10.209 12.234,-10.324 12.047,-10.532 11.907,-10.62 11.787,-10.614 11.431,-10.524 11.17,-10.528 10.959,-10.631 10.887,-10.691 10.66,-10.902 10.66,-13.658 9.744,-13.658 9.744,-9.66 10.202,-9.66 10.477,-9.671 10.619,-9.71 10.66,-9.785 10.66,-9.787 10.679,-9.866 10.767,-9.856 10.889,-9.799 11.14,-9.693 11.344,-9.629 11.607,-9.613
  region: 10.83,-15.905 11.15,-15.968 11.333,-16.061 11.524,-16.217 11.252,-16.561 11.083,-16.77 10.969,-16.871 10.856,-16.887 10.69,-16.837 10.612,-16.809 10.294,-16.767 10.003,-16.856 9.789,-17.059 9.754,-17.123 9.717,-17.294 9.687,-17.609 9.668,-18.046 9.66,-18.582 9.66,-18.658 9.66,-19.987 8.744,-19.987 8.744,-15.906 9.202,-15.906 9.466,-15.913 9.604,-15.944 9.655,-16.013 9.66,-16.079 9.66,-16.251 9.88,-16.079 10.131,-15.961 10.469,-15.903
  region: -6.579,-15.915 -6.454,-15.952 -6.414,-16.035 -6.412,-16.072 -6.405,-16.175 -6.356,-16.191 -6.221,-16.12 -6.142,-16.072 -5.89,-15.968 -5.59,-15.917 -5.275,-15.913 -4.98,-15.951 -4.739,-16.027 -4.587,-16.134 -4.557,-16.268 -4.572,-16.305 -4.683,-16.456 -4.854,-16.641 -4.885,-16.671 -5.049,-16.809 -5.191,-16.854 -5.388,-16.823 -5.467,-16.802 -5.714,-16.752 -5.887,-16.775 -6.033,-16.853 -6.167,-16.959 -6.266,-17.092 -6.334,-17.277 -6.378,-17.541 -6.402,-17.907 -6.412,-18.402 -6.412,-18.701 -6.412,-19.987 -7.245,-19.987 -7.245,-15.906 -6.829,-15.906
  region: 8.994,-13.658 8.536,-13.658 8.26,-13.647 8.118,-13.607 8.078,-13.533 8.054,-13.466 7.959,-13.48 7.767,-13.574 7.327,-13.719 6.861,-13.709 6.414,-13.552 6.201,-13.427 6.038,-13.292 5.92,-13.124 5.838,-12.898 5.787,-12.591 5.759,-12.18 5.748,-11.64 5.746,-11.223 5.746,-9.66 6.579,-9.66 6.579,-10.957 6.587,-11.567 6.616,-12.031 6.673,-12.368 6.767,-12.595 6.904,-12.734 7.094,-12.802 7.329,-12.82 7.574,-12.8 7.761,-12.729 7.896,-12.586 7.988,-12.353 8.044,-12.011 8.071,-11.54 8.078,-10.957 8.078,-9.66 8.994,-9.66
  region: -4.994,-9.729 -4.787,-9.828 -4.586,-9.971 -4.433,-10.136 -4.321,-10.346 -4.245,-10.625 -4.198,-10.996 -4.174,-11.485 -4.166,-12.114 -4.166,-12.18 -4.164,-13.658 -5.08,-13.658 -5.08,-12.295 -5.081,-11.79 -5.085,-11.424 -5.097,-11.17 -5.121,-10.999 -5.16,-10.884 -5.218,-10.798 -5.3,-10.713 -5.583,-10.53 -5.893,-10.496 -6.189,-10.611 -6.291,-10.698 -6.367,-10.778 -6.421,-10.865 -6.457,-10.985 -6.479,-11.165 -6.491,-11.432 -6.495,-11.815 -6.496,-12.28 -6.496,-13.658 -7.412,-13.658 -7.412,-9.66 -6.954,-9.66 -6.679,-9.671 -6.537,-9.71 -6.496,-9.785 -6.496,-9.787 -6.477,-9.861 -6.392,-9.853 -6.225,-9.772 -5.845,-9.652 -5.411,-9.639
  region: 14.685,-9.695 15.167,-9.9 15.319,-10 15.513,-10.153 15.635,-10.274 15.656,-10.313 15.597,-10.4 15.444,-10.548 15.321,-10.651 14.986,-10.921 14.721,-10.698 14.517,-10.554 14.317,-10.505 14.089,-10.517 13.726,-10.607 13.477,-10.794 13.325,-11.096 13.256,-11.532 13.256,-11.533 13.262,-12.02 13.355,-12.378 13.539,-12.621 13.665,-12.704 13.999,-12.807 14.356,-12.807 14.667,-12.707 14.74,-12.658 14.925,-12.534 15.069,-12.514 15.224,-12.606 15.396,-12.772 15.668,-13.053 15.366,-13.302 14.899,-13.583 14.373,-13.721 13.824,-13.711 13.462,-13.62 13.04,-13.392 12.703,-13.035 12.55,-12.783 12.425,-12.422 12.363,-11.963 12.363,-11.467 12.423,-10.99 12.545,-10.591 12.564,-10.55 12.848,-10.149 13.233,-9.856 13.687,-9.679 14.181,-9.624
  region: 4.045,-9.71 4.466,-9.939 4.796,-10.301 4.951,-10.596 5.018,-10.856 5.061,-11.227 5.079,-11.654 5.072,-12.083 5.038,-12.46 4.997,-12.661 4.861,-12.937 4.626,-13.229 4.342,-13.485 4.061,-13.65 4.054,-13.653 3.706,-13.725 3.293,-13.727 2.9,-13.661 2.749,-13.608 2.358,-13.387 2.079,-13.097 1.895,-12.713 1.793,-12.21 1.769,-11.946 1.772,-11.615 1.776,-11.243 1.89,-10.666 2.113,-10.216 2.444,-9.892 2.883,-9.695 2.978,-9.672 3.545,-9.619 hole: 3.455,-10.501 3.146,-10.569 2.908,-10.737 2.783,-10.874 2.711,-11.01 2.676,-11.194 2.665,-11.476 2.665,-11.615 2.695,-12.098 2.782,-12.467 2.919,-12.702 3.017,-12.769 3.268,-12.816 3.567,-12.802 3.825,-12.735 3.892,-12.698 4.071,-12.481 4.189,-12.15 4.239,-11.747 4.214,-11.315 4.16,-11.055 4.002,-10.754 3.754,-10.566
  region: 1.865,-15.923 2.194,-15.948 2.624,-17.239 3.055,-18.53 3.19,-18.071 3.271,-17.788 3.378,-17.406 3.494,-16.985 3.555,-16.76 3.784,-15.906 4.731,-15.906 4.448,-16.801 4.309,-17.242 4.14,-17.773 3.965,-18.327 3.808,-18.821 3.45,-19.945 2.678,-19.995 2.468,-19.304 2.339,-18.875 2.198,-18.401 2.075,-17.983 2.07,-17.966 1.978,-17.683 1.897,-17.49 1.84,-17.417 1.828,-17.425 1.787,-17.538 1.71,-17.781 1.604,-18.123 1.481,-18.533 1.414,-18.759 1.053,-19.987 0.287,-19.987 -0.326,-18.051 -0.498,-17.508 -0.655,-17.014 -0.789,-16.594 -0.893,-16.27 -0.96,-16.066 -0.98,-16.006 -0.964,-15.945 -0.838,-15.918 -0.577,-15.921 -0.537,-15.923 -0.052,-15.948 0.265,-17.114 0.381,-17.539 0.485,-17.913 0.568,-18.203 0.62,-18.376 0.629,-18.405 0.669,-18.372 0.749,-18.203 0.86,-17.922 0.993,-17.55 1.106,-17.214 1.535,-15.898
  region: -16.811,-9.704 -16.375,-9.896 -16.044,-10.218 -15.818,-10.669 -15.696,-11.25 -15.687,-11.341 -15.68,-11.981 -15.769,-12.541 -15.949,-12.996 -16.045,-13.142 -16.38,-13.451 -16.806,-13.652 -17.284,-13.735 -17.771,-13.693 -18.141,-13.562 -18.459,-13.343 -18.719,-13.055 -18.724,-13.048 -18.829,-12.871 -18.898,-12.692 -18.94,-12.467 -18.964,-12.149 -18.975,-11.888 -18.979,-11.651 -18.985,-11.369 -18.968,-10.981 -18.918,-10.689 -18.827,-10.459 -18.689,-10.256 -18.638,-10.196 -18.318,-9.895 -17.976,-9.719 -17.556,-9.646 -17.352,-9.64 hole: -17.466,-10.516 -17.736,-10.617 -17.965,-10.826 -18.102,-11.17 -18.147,-11.651 -18.138,-11.887 -18.109,-12.2 -18.057,-12.401 -17.963,-12.544 -17.875,-12.628 -17.563,-12.803 -17.236,-12.826 -16.932,-12.7 -16.78,-12.559 -16.671,-12.417 -16.607,-12.281 -16.578,-12.104 -16.577,-11.839 -16.585,-11.594 -16.604,-11.245 -16.634,-11.019 -16.687,-10.871 -16.777,-10.759 -16.848,-10.694 -17.145,-10.525
  region: -1.332,-19.987 -1.79,-19.987 -2.056,-19.979 -2.195,-19.947 -2.245,-19.877 -2.249,-19.829 -2.257,-19.734 -2.31,-19.716 -2.449,-19.775 -2.558,-19.829 -2.974,-19.959 -3.426,-19.966 -3.793,-19.87 -4.136,-19.636 -4.397,-19.292 -4.539,-18.885 -4.543,-18.862 -4.564,-18.614 -4.575,-18.258 -4.574,-17.989 -4.574,-17.852 -4.568,-17.634 -4.527,-17.094 -4.442,-16.688 -4.301,-16.388 -4.092,-16.165 -3.889,-16.034 -3.605,-15.942 -3.252,-15.911 -2.891,-15.936 -2.582,-16.016 -2.418,-16.112 -2.249,-16.265 -2.249,-14.324 -1.332,-14.324 hole: -3.069,-16.771 -3.338,-16.853 -3.537,-17.038 -3.558,-17.075 -3.622,-17.299 -3.658,-17.622 -3.664,-17.989 -3.643,-18.347 -3.595,-18.642 -3.53,-18.808 -3.285,-19.036 -2.993,-19.118 -2.693,-19.052 -2.436,-18.855 -2.339,-18.722 -2.282,-18.564 -2.255,-18.334 -2.249,-17.987 -2.26,-17.644 -2.291,-17.343 -2.335,-17.141 -2.343,-17.123 -2.52,-16.908 -2.779,-16.79
  region: 17.736,-9.646 17.949,-9.698 18.358,-9.888 18.707,-10.177 18.949,-10.525 18.982,-10.603 19.028,-10.807 19.06,-11.109 19.071,-11.415 19.071,-11.992 17.863,-11.992 17.365,-11.994 17.014,-12.005 16.791,-12.035 16.677,-12.092 16.651,-12.184 16.695,-12.32 16.774,-12.48 16.995,-12.746 17.302,-12.879 17.676,-12.874 18.101,-12.73 18.468,-12.552 18.772,-12.792 19.076,-13.033 18.79,-13.298 18.408,-13.548 17.938,-13.698 17.432,-13.741 16.943,-13.665 16.864,-13.639 16.434,-13.415 16.115,-13.08 15.898,-12.625 15.778,-12.041 15.777,-12.028 15.766,-11.391 15.81,-11.163 15.873,-10.83 16.085,-10.36 16.39,-9.993 16.775,-9.742 17.227,-9.622 hole: 17.602,-10.456 17.328,-10.462 17.049,-10.585 16.816,-10.787 16.676,-11.034 16.656,-11.163 16.733,-11.198 16.944,-11.225 17.255,-11.24 17.452,-11.243 17.82,-11.241 18.05,-11.232 18.171,-11.208 18.212,-11.161 18.201,-11.085 18.192,-11.055 18.043,-10.778 17.809,-10.554
  region: 0.093,-9.646 0.408,-9.706 0.735,-9.831 0.77,-9.847 1.018,-9.977 1.19,-10.099 1.246,-10.176 1.193,-10.303 1.064,-10.49 1.007,-10.56 0.772,-10.834 0.469,-10.655 0.181,-10.536 -0.152,-10.473 -0.471,-10.469 -0.719,-10.528 -0.778,-10.566 -0.891,-10.737 -0.905,-10.934 -0.82,-11.088 -0.77,-11.118 -0.62,-11.155 -0.357,-11.199 -0.032,-11.24 0.028,-11.247 0.55,-11.337 0.928,-11.49 1.179,-11.721 1.318,-12.043 1.362,-12.436 1.302,-12.883 1.107,-13.234 0.777,-13.49 0.31,-13.65 -0.208,-13.714 -0.631,-13.713 -0.973,-13.655 -1.208,-13.576 -1.503,-13.437 -1.777,-13.276 -1.874,-13.205 -2.124,-13.001 -1.822,-12.697 -1.521,-12.392 -1.178,-12.618 -0.835,-12.789 -0.468,-12.878 -0.115,-12.887 0.186,-12.818 0.397,-12.673 0.466,-12.55 0.456,-12.354 0.286,-12.204 -0.043,-12.1 -0.404,-12.052 -0.959,-11.96 -1.371,-11.787 -1.646,-11.529 -1.789,-11.178 -1.809,-10.763 -1.711,-10.329 -1.487,-10.002 -1.136,-9.778 -0.655,-9.658 -0.299,-9.634
  region: 13.462,-15.928 13.86,-16.031 14.193,-16.245 14.355,-16.405 14.619,-16.782 14.771,-17.219 14.823,-17.757 14.823,-17.801 14.824,-18.238 12.307,-18.238 12.361,-18.467 12.458,-18.674 12.627,-18.891 12.663,-18.925 12.967,-19.112 13.315,-19.143 13.715,-19.021 13.783,-18.988 13.991,-18.887 14.13,-18.83 14.154,-18.824 14.239,-18.876 14.401,-19.002 14.483,-19.071 14.653,-19.229 14.709,-19.333 14.67,-19.429 14.649,-19.455 14.509,-19.57 14.277,-19.71 14.116,-19.791 13.657,-19.935 13.149,-19.981 12.668,-19.926 12.533,-19.887 12.117,-19.663 11.807,-19.319 11.605,-18.852 11.506,-18.257 11.495,-17.947 11.527,-17.494 11.541,-17.287 11.683,-16.762 11.924,-16.367 12.268,-16.097 12.716,-15.949 12.959,-15.921 hole: 13.183,-16.721 12.862,-16.783 12.584,-16.961 12.391,-17.219 12.325,-17.494 12.402,-17.527 12.61,-17.554 12.912,-17.569 13.116,-17.572 13.484,-17.569 13.716,-17.557 13.844,-17.529 13.897,-17.479 13.908,-17.407 13.836,-17.182 13.656,-16.961 13.42,-16.791
  region: -8.985,-9.753 -8.902,-9.792 -8.615,-10.003 -8.344,-10.31 -8.141,-10.648 -8.083,-10.803 -8.03,-11.081 -7.999,-11.416 -7.995,-11.555 -7.995,-11.992 -10.511,-11.992 -10.458,-12.221 -10.326,-12.492 -10.096,-12.726 -9.822,-12.877 -9.647,-12.908 -9.411,-12.87 -9.128,-12.775 -9.032,-12.731 -8.678,-12.554 -8.375,-12.785 -8.2,-12.941 -8.107,-13.07 -8.103,-13.108 -8.186,-13.199 -8.368,-13.339 -8.533,-13.447 -8.978,-13.643 -9.478,-13.731 -9.973,-13.708 -10.368,-13.588 -10.775,-13.331 -11.064,-12.992 -11.245,-12.553 -11.327,-11.997 -11.335,-11.742 -11.306,-11.159 -11.302,-11.142 -11.209,-10.699 -11.034,-10.332 -10.821,-10.071 -10.426,-9.788 -9.962,-9.637 -9.469,-9.623 hole: -9.694,-10.46 -10.011,-10.537 -10.277,-10.744 -10.446,-11.045 -10.449,-11.055 -10.468,-11.142 -10.445,-11.196 -10.351,-11.227 -10.156,-11.24 -9.832,-11.243 -9.708,-11.243 -9.328,-11.238 -9.088,-11.222 -8.958,-11.189 -8.912,-11.136 -8.911,-11.119 -8.963,-10.984 -9.094,-10.794 -9.15,-10.728 -9.359,-10.54 -9.576,-10.466
  region: 6.877,-15.931 7.228,-16.016 7.33,-16.061 7.527,-16.18 7.677,-16.313 7.789,-16.484 7.868,-16.717 7.921,-17.034 7.953,-17.458 7.973,-18.013 7.98,-18.384 8.007,-19.987 7.543,-19.987 7.261,-19.975 7.116,-19.935 7.079,-19.867 7.059,-19.794 6.97,-19.808 6.85,-19.866 6.548,-19.956 6.159,-19.981 5.751,-19.941 5.389,-19.839 5.356,-19.825 5.025,-19.592 4.807,-19.269 4.706,-18.891 4.714,-18.755 4.729,-18.494 4.879,-18.115 5.084,-17.859 5.208,-17.749 5.33,-17.676 5.488,-17.631 5.722,-17.606 6.071,-17.59 6.21,-17.585 7.079,-17.557 7.077,-17.294 7.044,-17.017 6.922,-16.85 6.676,-16.743 6.67,-16.741 6.321,-16.699 5.98,-16.754 5.726,-16.887 5.625,-16.953 5.515,-16.944 5.347,-16.849 5.248,-16.781 5.054,-16.637 4.934,-16.53 4.915,-16.499 4.994,-16.339 5.228,-16.148 5.33,-16.084 5.622,-15.973 6.016,-15.91 6.454,-15.896 hole: 7.079,-18.238 6.673,-18.238 6.201,-18.262 5.87,-18.338 5.661,-18.47 5.614,-18.529 5.534,-18.755 5.606,-18.938 5.82,-19.069 6.165,-19.139 6.35,-19.148 6.658,-19.125 6.862,-19.032 6.912,-18.988 7.047,-18.747 7.079,-18.53
  region: -9.168,-15.938 -8.776,-16.043 -8.478,-16.233 -8.267,-16.481 -8.202,-16.587 -8.153,-16.698 -8.12,-16.839 -8.098,-17.038 -8.085,-17.32 -8.08,-17.711 -8.078,-18.236 -8.078,-18.375 -8.078,-19.987 -8.478,-19.987 -8.733,-19.969 -8.921,-19.924 -8.969,-19.896 -9.098,-19.848 -9.23,-19.896 -9.447,-19.956 -9.762,-19.98 -10.112,-19.97 -10.431,-19.926 -10.618,-19.869 -10.979,-19.637 -11.205,-19.316 -11.306,-18.888 -11.307,-18.877 -11.298,-18.687 -11.285,-18.409 -11.131,-18.04 -10.841,-17.76 -10.801,-17.735 -10.629,-17.652 -10.416,-17.602 -10.118,-17.578 -9.764,-17.572 -8.994,-17.572 -8.994,-17.249 -9.027,-16.998 -9.11,-16.83 -9.12,-16.822 -9.305,-16.748 -9.586,-16.72 -9.895,-16.734 -10.169,-16.788 -10.332,-16.868 -10.42,-16.933 -10.513,-16.946 -10.641,-16.892 -10.835,-16.761 -11.125,-16.538 -11.152,-16.517 -11.138,-16.44 -11.024,-16.311 -10.851,-16.168 -10.66,-16.048 -10.6,-16.02 -10.381,-15.963 -10.059,-15.923 -9.701,-15.906 -9.684,-15.906 hole: -8.994,-18.238 -9.455,-18.238 -9.892,-18.272 -10.224,-18.367 -10.431,-18.516 -10.493,-18.687 -10.423,-18.903 -10.308,-19.024 -10.078,-19.116 -9.774,-19.153 -9.464,-19.135 -9.216,-19.063 -9.146,-19.016 -9.025,-18.802 -8.994,-18.558
  region: -12.642,-9.73 -12.466,-9.817 -12.25,-9.968 -12.092,-10.133 -11.984,-10.34 -11.916,-10.618 -11.881,-10.994 -11.868,-11.499 -11.867,-11.715 -11.869,-12.191 -11.878,-12.53 -11.898,-12.765 -11.932,-12.926 -11.985,-13.045 -12.039,-13.126 -12.386,-13.47 -12.795,-13.678 -13.236,-13.74 -13.68,-13.65 -13.821,-13.586 -14.157,-13.411 -14.157,-16.16 -13.912,-16.033 -13.588,-15.935 -13.19,-15.91 -12.793,-15.956 -12.493,-16.061 -12.244,-16.26 -12.031,-16.544 -12.015,-16.574 -11.948,-16.711 -11.898,-16.85 -11.864,-17.018 -11.843,-17.244 -11.831,-17.555 -11.826,-17.981 -11.826,-18.459 -11.826,-19.987 -12.742,-19.987 -12.742,-17.17 -12.998,-16.955 -13.264,-16.782 -13.516,-16.751 -13.77,-16.831 -13.905,-16.911 -14.005,-17.023 -14.077,-17.193 -14.125,-17.445 -14.155,-17.802 -14.172,-18.289 -14.178,-18.613 -14.199,-19.945 -14.636,-19.97 -15.073,-19.996 -15.073,-11.727 -15.073,-9.66 -14.615,-9.66 -14.34,-9.671 -14.199,-9.71 -14.157,-9.785 -14.157,-9.787 -14.138,-9.861 -14.054,-9.853 -13.887,-9.772 -13.497,-9.648 -13.058,-9.635 hole: -13.589,-10.5 -13.779,-10.545 -13.967,-10.706 -14.091,-11.019 -14.151,-11.482 -14.157,-11.727 -14.134,-12.188 -14.055,-12.508 -13.908,-12.707 -13.68,-12.805 -13.45,-12.825 -13.188,-12.802 -13.015,-12.714 -12.907,-12.596 -12.822,-12.47 -12.771,-12.329 -12.748,-12.132 -12.748,-11.837 -12.755,-11.589 -12.773,-11.217 -12.799,-10.972 -12.842,-10.817 -12.913,-10.712 -12.98,-10.652 -13.259,-10.521
  region: 335 vertices and 0 holes, not listed, extent -14.832,-6.662 14.915,19.945

## OSHW-Logo_38.1x40mm_SilkScreen [mm]
F.SilkS:
  drawing of 18 lines, arcs and shapes, not listed

## OSHW-Symbol_6.7x6mm_Copper [mm]
F.Cu:
  region: 336 vertices and 0 holes, not listed, extent -3.302,-2.948 3.321,2.976

## OSHW-Symbol_6.7x6mm_SilkScreen [mm]
F.SilkS:
  drawing of 1 lines, arcs and shapes, not listed

## OSHW-Symbol_8.9x8mm_Copper [mm]
F.Cu:
  region: 337 vertices and 0 holes, not listed, extent -4.435,-3.959 4.46,3.997

## OSHW-Symbol_8.9x8mm_SilkScreen [mm]
F.SilkS:
  drawing of 1 lines, arcs and shapes, not listed

## OSHW-Symbol_13.4x12mm_Copper [mm]
F.Cu:
  region: 336 vertices and 0 holes, not listed, extent -6.653,-5.939 6.69,5.995

## OSHW-Symbol_13.4x12mm_SilkScreen [mm]
F.SilkS:
  drawing of 1 lines, arcs and shapes, not listed

## OSHW-Symbol_22.3x20mm_Copper [mm]
F.Cu:
  region: 337 vertices and 0 holes, not listed, extent -11.088,-9.899 11.15,9.992

## OSHW-Symbol_22.3x20mm_SilkScreen [mm]
F.SilkS:
  drawing of 1 lines, arcs and shapes, not listed

## OSHW-Symbol_33.5x30mm_Copper [mm]
F.Cu:
  region: 337 vertices and 0 holes, not listed, extent -16.632,-14.848 16.725,14.988

## OSHW-Symbol_33.5x30mm_SilkScreen [mm]
F.SilkS:
  drawing of 1 lines, arcs and shapes, not listed